# Altium footprint library transistor.PCBLIB: 57 footprints (part 1 of 4)
Each footprint in its own frame and in the unit in brackets; x right, y up, seen from the top. Pads: shape width x height; smd on the part's side, far side on the other; paste and mask are expansions set on the pad; w line width, h text height; cw(c..) or ccw(c..) is an arc to the next point about the centre after c.
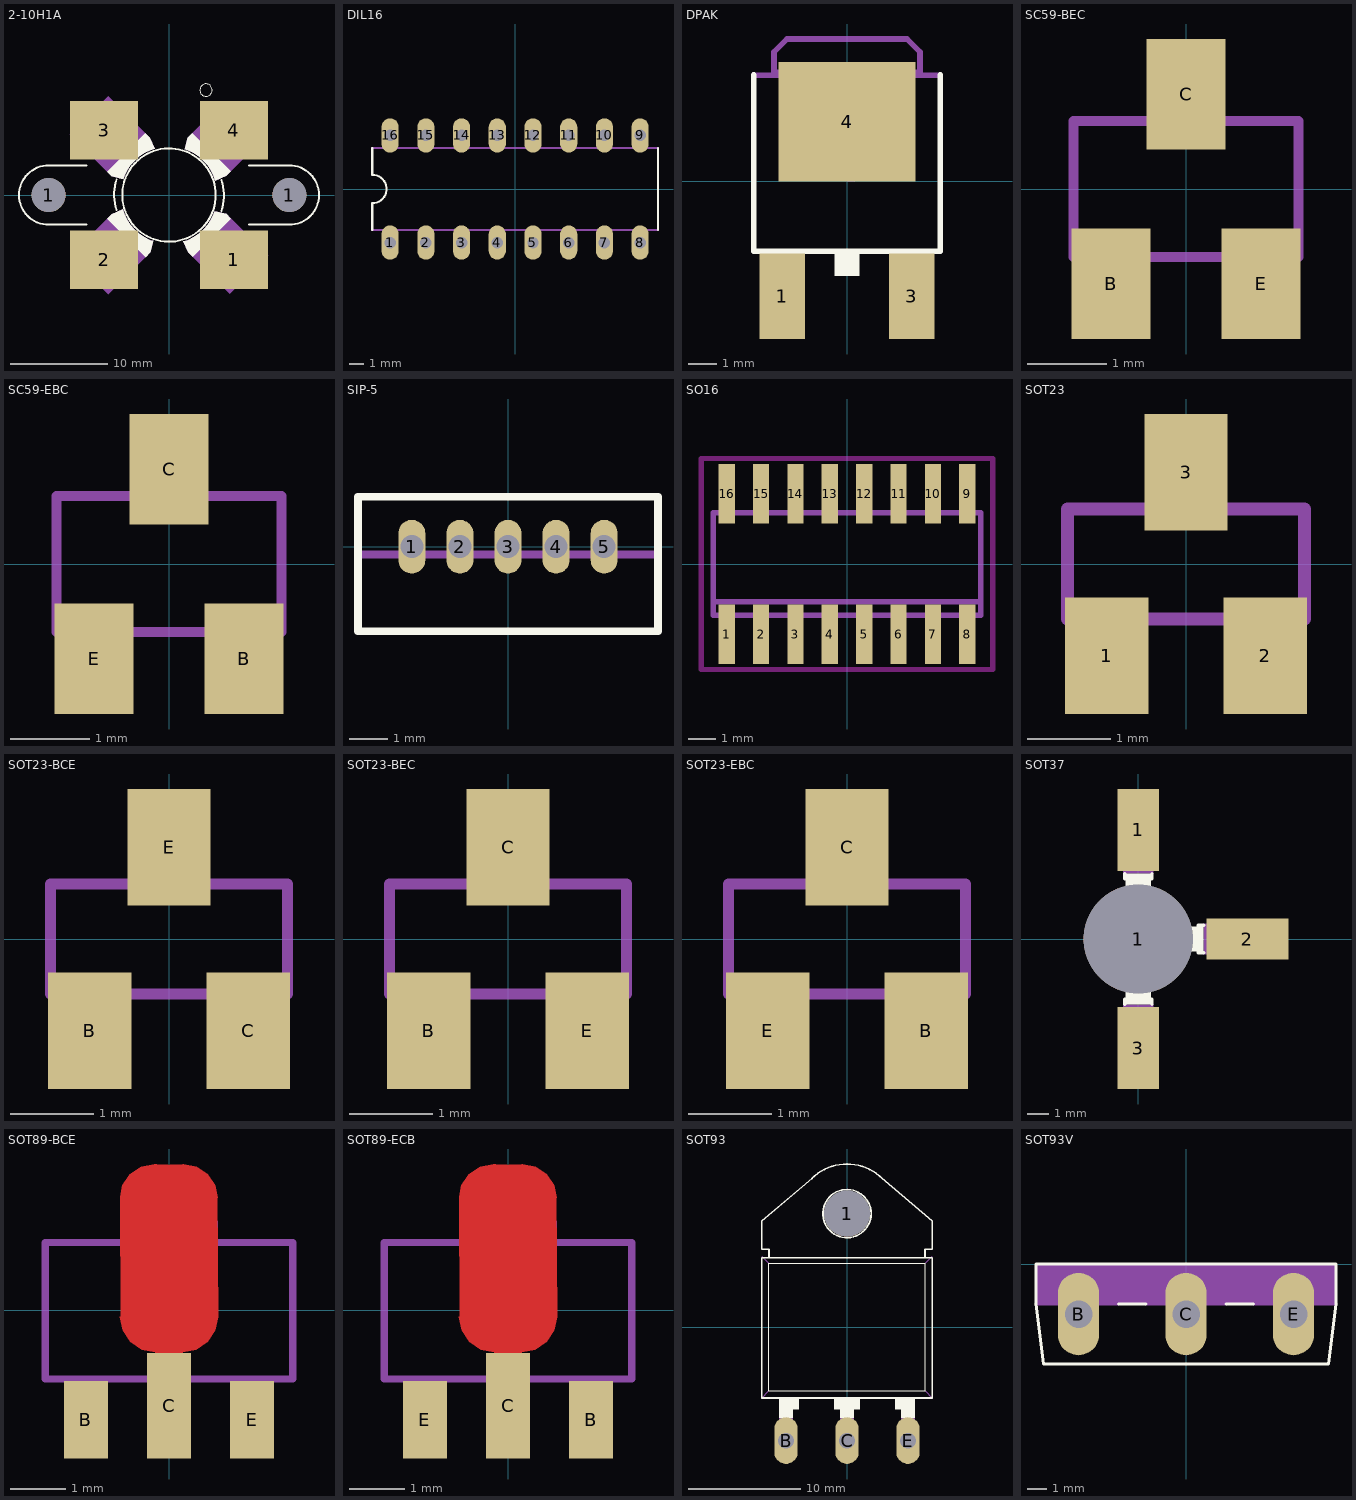
[diagram p0: the footprints below, top view; thin cyan lines are the x and y axes]

## 2-10H1A [mm]
pads (6):
  round 3.5 hole 3.5: 1(-12.375,0) 1(12.375,0)
  rect 7x6 smd: 1(6.668,-6.668) 2(-6.668,-6.668) 3(-6.668,6.668) 4(6.668,6.668)
Top Overlay:
  circle w0.203: c0,0 r4.8
  circle w0: c3.81,10.795 r0.635
  circle w0: c3.81,10.795 r0.635
  region: -1.962,5.887 -1.485,4.775 -1.922,4.626 -2.508,4.337 -3.051,3.975 -3.542,3.544 -3.973,3.053 -4.336,2.509 -4.625,1.923 -4.72,1.644 -5.904,1.945 -6.375,2.415 -2.433,6.357
  region: -5.887,-1.962 -4.775,-1.485 -4.626,-1.922 -4.337,-2.508 -3.975,-3.051 -3.544,-3.542 -3.053,-3.973 -2.509,-4.336 -1.923,-4.625 -1.644,-4.72 -1.945,-5.904 -2.415,-6.375 -6.357,-2.433
  region: 1.962,-5.887 1.485,-4.775 1.922,-4.626 2.508,-4.337 3.051,-3.975 3.542,-3.544 3.973,-3.053 4.336,-2.509 4.625,-1.923 4.72,-1.644 5.904,-1.945 6.375,-2.415 2.433,-6.357
  region: 5.887,1.962 4.775,1.485 4.626,1.922 4.337,2.508 3.975,3.051 3.544,3.542 3.053,3.973 2.509,4.336 1.923,4.625 1.644,4.72 1.945,5.904 2.415,6.375 6.357,2.433
  lines w0.203: -8.47,-3.05 -12.375,-3.05 cw(c-12.375,0) -12.375,3.05 -8.47,3.05 ; -5.375,-1.55 cw(c-0.994,0.038) -5.375,1.625 ; 5.375,-1.625 ccw(c0.994,-0.038) 5.375,1.55 ; 8.22,-3.05 12.375,-3.05 ccw(c12.375,0) 12.375,3.05 8.22,3.05
Top Solder:
  circle w0: c3.81,10.795 r0.635
Mechanical 4:
  region: -5.887,-1.962 -4.775,-1.485 -4.626,-1.922 -4.337,-2.508 -3.975,-3.051 -3.544,-3.542 -3.053,-3.973 -2.509,-4.336 -1.923,-4.625 -1.644,-4.72 -1.945,-5.904 -6.225,-10.185 -10.167,-6.243
  region: 1.962,-5.887 1.485,-4.775 1.922,-4.626 2.508,-4.337 3.051,-3.975 3.542,-3.544 3.973,-3.053 4.336,-2.509 4.625,-1.923 4.72,-1.644 5.904,-1.945 10.185,-6.225 6.243,-10.167
  region: 5.887,1.962 4.775,1.485 4.626,1.922 4.337,2.508 3.975,3.051 3.544,3.542 3.053,3.973 2.509,4.336 1.923,4.625 1.644,4.72 1.945,5.904 4.255,8.23 8.18,8.23 10.167,6.243
  region: -1.962,5.887 -1.485,4.775 -1.922,4.626 -2.508,4.337 -3.051,3.975 -3.542,3.544 -3.973,3.053 -4.336,2.509 -4.625,1.923 -4.72,1.644 -5.904,1.945 -10.185,6.225 -6.243,10.167

## DIL16 [mil]
pads (16):
  oval 48x96 hole 32: 1(-350,-150) 2(-250,-150) 3(-150,-150) 4(-50,-150) 5(50,-150) 6(150,-150) 7(250,-150) 8(350,-150) 9(350,150) 10(250,150) 11(150,150) 12(50,150) 13(-50,150) 14(-150,150) 15(-250,150) 16(-350,150)
Top Overlay:
  lines w6: -400,-115 -400,-40 ccw(c-400,0) -400,40 -400,115 ; 400,-115 400,115
Mechanical 4:
  lines w6: -400,-115 400,-115 ; -400,115 400,115

## DPAK [mil]
pads (3):
  rect 62.99x118.11 smd: 1(-89.76,-159.06) 3(89.76,-159.06)
  rect 190x165 smd: 4(0,82.52)
Top Overlay:
  rectangle: -17,-130.81 17,-100.81
  lines w8: -129,147.06 -129.02,-96.81 129.02,-96.81 129,147.06
Mechanical 4:
  rectangle: 73,-214.81 107,-100.81
  rectangle: -107,-214.81 -73,-100.81
  region: 0,0 10,0 10,10 0,10
  lines w8: -129.02,147.05 129.03,147.03 ; -101,151.06 101,151.06 101,179.06 83,197.06 -83,197.06 -101,179.06 -101,151.06
3D body: height 94.19, standoff -0.89, extent -128.73,-198.76 128.75,192.51

## SC59-BEC [mm]
pads (3):
  rect 1x1.4 smd: B(-0.95,-1.2) C(0,1.2) E(0.95,-1.2)
Mechanical 4:
  rectangle: -1.168,-1.495 -0.711,-0.911
  rectangle: 0.711,-1.495 1.168,-0.911
  rectangle: -0.229,0.911 0.229,1.495
  lines w0.127: -1.422,-0.86 -1.422,0.86 1.422,0.86 1.422,-0.86 -1.422,-0.86

## SC59-EBC [mm]
pads (3):
  rect 1x1.4 smd: B(0.95,-1.2) C(0,1.2) E(-0.95,-1.2)
Mechanical 4:
  rectangle: -1.168,-1.495 -0.711,-0.911
  rectangle: 0.711,-1.495 1.168,-0.911
  rectangle: -0.229,0.911 0.229,1.495
  lines w0.127: -1.422,-0.86 -1.422,0.86 1.422,0.86 1.422,-0.86 -1.422,-0.86

## SIP-5 [mil]
pads (5):
  oval 27.56x55.12 hole 23.62: 1(-98.43,0) 2(-49.21,0) 3(0,0) 4(49.21,0) 5(98.43,0)
Top Overlay:
  lines w8: -153.54,-86.61 153.54,-86.61 153.54,51.18 -153.54,51.18 -153.54,-86.61
Mechanical 4:
  lines w8: -153.54,-7.87 153.54,-7.87

## SO16 [mil]
pads (16):
  rect 23.62x86.61 smd: 1(-175,-102.36) 2(-125,-102.36) 3(-75,-102.36) 4(-25,-102.36) 5(25,-102.36) 6(75,-102.36) 7(125,-102.36) 8(175,-102.36) 9(175,102.36) 10(125,102.36) 11(75,102.36) 12(25,102.36) 13(-25,102.36) 14(-75,102.36) 15(-125,102.36) 16(-175,102.36)
Keep-Out Layer:
  lines w7.87: -212.4,-153.54 212.4,-153.54 212.4,153.54 -212.4,153.54 -212.4,-153.54
Mechanical 4:
  rectangle: -184.65,-122.05 -165.35,-78.74
  rectangle: -134.65,-122.05 -115.35,-78.74
  rectangle: -84.65,-122.05 -65.35,-78.74
  rectangle: -34.65,-122.05 -15.35,-78.74
  rectangle: 65.35,78.74 84.65,122.05
  rectangle: 15.35,78.74 34.65,122.05
  rectangle: -34.65,78.74 -15.35,122.05
  rectangle: -84.65,78.74 -65.35,122.05
  rectangle: 15.35,-122.05 34.65,-78.74
  rectangle: 65.35,-122.05 84.65,-78.74
  rectangle: 115.35,-122.05 134.65,-78.74
  rectangle: 165.35,-122.05 184.65,-78.74
  rectangle: 165.35,78.74 184.65,122.05
  rectangle: 115.35,78.74 134.65,122.05
  rectangle: -134.65,78.74 -115.35,122.05
  rectangle: -184.65,78.74 -165.35,122.05
  lines w8: -194.49,-55.12 -194.49,-74.8 194.49,-74.8 194.49,-55.12 ; -194.49,-55.12 -194.49,74.8 194.49,74.8 194.49,-55.12 ; -194.49,-55.12 194.49,-55.12

## SOT23 [mm]
pads (3):
  rect 1x1.4 smd: 1(-0.95,-1.1) 2(0.95,-1.1) 3(0,1.1)
Mechanical 4:
  rectangle: -1.168,-1.295 -0.711,-0.711
  rectangle: 0.711,-1.295 1.168,-0.711
  rectangle: -0.229,0.711 0.229,1.295
  lines w0.152: -1.422,-0.66 -1.422,0.66 1.422,0.66 1.422,-0.66 -1.422,-0.66
3D body: height 1.05, standoff -0.05, extent -1.5,-1.25 1.5,1.25

## SOT23-BCE [mm]
pads (3):
  rect 1x1.4 smd: B(-0.95,-1.1) C(0.95,-1.1) E(0,1.1)
Mechanical 4:
  rectangle: -0.229,0.711 0.229,1.295
  rectangle: 0.711,-1.295 1.168,-0.711
  rectangle: -1.168,-1.295 -0.711,-0.711
  lines w0.127: -1.422,-0.66 1.422,-0.66 1.422,0.66 -1.422,0.66 -1.422,-0.66
3D body: height 1.05, standoff -0.05, extent -1.5,-1.25 1.5,1.25

## SOT23-BEC [mm]
pads (3):
  rect 1x1.4 smd: B(-0.95,-1.1) C(0,1.1) E(0.95,-1.1)
Mechanical 4:
  rectangle: -1.168,-1.295 -0.711,-0.711
  rectangle: 0.711,-1.295 1.168,-0.711
  rectangle: -0.229,0.711 0.229,1.295
  lines w0.127: -1.422,-0.66 -1.422,0.66 1.422,0.66 1.422,-0.66 -1.422,-0.66
3D body: height 1.05, standoff -0.05, extent -1.5,-1.25 1.5,1.25

## SOT23-EBC [mm]
pads (3):
  rect 1x1.4 smd: B(0.95,-1.1) C(0,1.1) E(-0.95,-1.1)
Mechanical 4:
  rectangle: -0.229,0.711 0.229,1.295
  rectangle: 0.711,-1.295 1.168,-0.711
  rectangle: -1.168,-1.295 -0.711,-0.711
  lines w0.127: -1.422,-0.66 1.422,-0.66 1.422,0.66 -1.422,0.66 -1.422,-0.66
3D body: height 1.05, standoff -0.05, extent -1.5,-1.25 1.5,1.25

## SOT37 [mil]
pads (4):
  round 200 hole 200: 1(0,0)
  rect 76x150 smd: 1(0,200) 3(0,-200)
  rect 150x76 smd: 2(200,0)
Top Overlay:
  circle w6: c0,0 r90
  circle w6: c0,60 r20
  rectangle: -20,-110 20,-95
  rectangle: -25,-120 25,-110
  rectangle: 95,-20 110,20
  rectangle: 110,-25 120,25
  rectangle: -25,110 25,120
  rectangle: -20,95 20,110
  lines w6: -25,-120 -25,-110 -20,-110 -20,-88 ; -25,120 -25,110 -20,110 -20,88 ; 20,-88 20,-110 25,-110 25,-120 ; 20,88 20,110 25,110 25,120 ; 87,20 110,20 110,25 120,25 ; 88,-20 110,-20 110,-25 120,-25
Mechanical 4:
  rectangle: -25,-135 25,-120
  rectangle: -20,-210 20,-135
  rectangle: 120,-25 135,25
  rectangle: 135,-20 210,20
  rectangle: -20,135 20,255
  rectangle: -25,120 25,135
  lines w6: -25,-120 -25,-135 -20,-135 -20,-209 20,-209 20,-135 25,-135 25,-120 ; -25,120 -25,135 -20,135 -20,256 20,256 20,135 25,135 25,120 ; 120,-25 135,-25 135,-20 209,-20 209,20 135,20 135,25 120,25

## SOT89-BCE [mil]
pads (3):
  rect 31.5x55.12 smd: B(-59.02,-77.99) E(59.02,-77.99)
  rect 31.5x74.8 smd paste-37.4 mask-37.4: C(0,-67.99)
Top Layer:
  region: 9.84,-80.71 -9.84,-80.71 -9.84,-30.01 -19.44,-28.1 -27.58,-22.66 -33.02,-14.52 -34.93,-4.92 -34.45,-4.92 -34.67,80.72 -33.09,88.66 -27.75,96.65 -19.76,101.99 -10.34,103.87 -8.85,103.57 -8.86,103.35 9.83,103.73 10.33,103.83 19.74,101.96 27.72,96.62 33.06,88.64 34.83,79.73 34.45,79.72 34.93,-4.92 33.02,-14.52 27.58,-22.66 19.44,-28.1 9.84,-30.01 9.84,-29.53
Top Paste:
  rectangle: -15.75,-105.51 15.75,-50.39
  region: 0,0 10,0 10,10 0,10
Top Solder:
  rectangle: -19.69,-109.45 19.69,-46.46
  region: 0,0 10,0 10,10 0,10
Mechanical 4:
  rectangle: -11,-83 11,-50
  rectangle: 50,-83 68,-50
  rectangle: -68,-83 -50,-50
  region: 0,0 10,0 10,10 0,10
  lines w5: -87.99,-49.02 -87.99,47.99 87.99,47.99 87.99,-49.02 -87.99,-49.02
  lines w7.87: -31,51 -31,62 -14,79 14,79 31,62 31,51 -31,51

## SOT89-ECB [mil]
pads (3):
  rect 31.5x55.12 smd: B(59.02,-77.99) E(-59.02,-77.99)
  rect 31.5x74.8 smd paste-37.4 mask-37.4: C(0,-67.99)
Top Layer:
  region: 9.84,-80.71 -9.84,-80.71 -9.84,-30.01 -19.44,-28.1 -27.58,-22.66 -33.02,-14.52 -34.93,-4.92 -34.45,-4.92 -34.67,80.72 -33.09,88.66 -27.75,96.65 -19.76,101.99 -10.34,103.87 -8.85,103.57 -8.86,103.35 9.83,103.73 10.33,103.83 19.74,101.96 27.72,96.62 33.06,88.64 34.83,79.73 34.45,79.72 34.93,-4.92 33.02,-14.52 27.58,-22.66 19.44,-28.1 9.84,-30.01 9.84,-29.53
Top Paste:
  rectangle: -15.75,-105.51 15.75,-50.39
  region: 0,0 10,0 10,10 0,10
Top Solder:
  rectangle: -19.69,-109.45 19.69,-46.46
  region: 0,0 10,0 10,10 0,10
Mechanical 4:
  rectangle: -68,-83 -50,-50
  rectangle: 50,-83 68,-50
  rectangle: -11,-83 11,-50
  region: 0,0 10,0 10,10 0,10
  lines w5: -87.99,-49.02 87.99,-49.02 87.99,47.99 -87.99,47.99 -87.99,-49.02
  lines w7.87: -31,51 31,51 31,62 14,79 -14,79 -31,62 -31,51

## SOT93 [mil]
pads (4):
  round 162 hole 162: 1(0,400)
  oval 82.5x165 hole 55: B(-215,-400) C(0,-400) E(215,-400)
Top Overlay:
  circle w6: c0,400 r85
  rectangle: 190,-320 240,-250
  rectangle: -25,-320 25,-250
  rectangle: -240,-320 -190,-250
  rectangle: -45,-290 45,-250
  rectangle: 170,-290 240,-250
  rectangle: -240,-290 -170,-250
  lines w2: -275,-225 -275,225 275,225 275,-225 -275,-225
  lines w6: -123.74,523.74 cw(c0.01,400) 0,575 cw(c-0.01,400) 123.74,523.74 ; -123,524 -300,375 -300,275 -275,275 -275,245 ; 123,525 300,375 300,275 275,275 275,245 ; -275,245 275,245 ; -275,245 -300,245 -300,-250 300,-250 300,245 275,245
Mechanical 4:
  rectangle: 190,-405 240,-320
  rectangle: -25,-405 25,-320
  rectangle: -240,-405 -190,-320
  lines w2: -300,-250 -275,-225 ; -300,250 -275,225 ; 275,-225 300,-250 ; 275,225 300,250

## SOT93V [mil]
pads (3):
  oval 82.5x165 hole 55: B(-215,-100) C(0,-100) E(215,-100)
Top Overlay:
  lines w6: -135,-80 -80,-80 ; 80,-80 135,-80 ; -300,-80 -285,-200 285,-200 300,-80 300,0 -300,0 -300,-80
Mechanical 4:
  rectangle: -300,-80 300,0
  lines w6: -300,-80 -135,-80 ; -80,-80 80,-80 ; 135,-80 300,-80